# EAGLE library part CON-FH23-25S (library zz-m-pad-2.1)
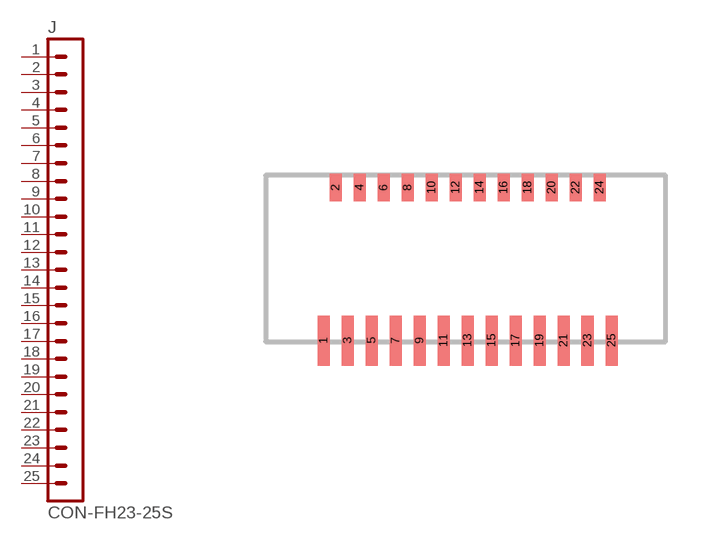
[diagram p134: symbol with the pads of FH23-25S; footprint FH23-25S]

Designator prefix J

## CON-FH23-25S  [FH23-25S]
1  1  pas
2  2  pas
3  3  pas
4  4  pas
5  5  pas
6  6  pas
7  7  pas
8  8  pas
9  9  pas
10  10  pas
11  11  pas
12  12  pas
13  13  pas
14  14  pas
15  15  pas
16  16  pas
17  17  pas
18  18  pas
19  19  pas
20  20  pas
21  21  pas
22  22  pas
23  23  pas
24  24  pas
25  25  pas

## Footprint FH23-25S (pad centres in mm)
0.3mm Contact Pitch, 1.25mm above the board, Flexible Printed Circuit Connectors
smd 0.3 x 1.25: 1 0,0.625; 3 0.6,0.625; 5 1.2,0.625; 7 1.8,0.625; 9 2.4,0.625; 11 3,0.625; 13 3.6,0.625; 15 4.2,0.625; 17 4.8,0.625; 19 5.4,0.625; 21 6,0.625; 23 6.6,0.625; 25 7.2,0.625
smd 0.3 x 0.7: 2 0.3,4.45; 4 0.9,4.45; 6 1.5,4.45; 8 2.1,4.45; 10 2.7,4.45; 12 3.3,4.45; 14 3.9,4.45; 16 4.5,4.45; 18 5.1,4.45; 20 5.7,4.45; 22 6.3,4.45; 24 6.9,4.45